# Altium footprint library S2B-13-F.PcbLib: 3 footprints
Each footprint in its own frame and in the unit in brackets; x right, y up, seen from the top. Pads: shape width x height; smd on the part's side, far side on the other; paste and mask are expansions set on the pad; w line width, h text height; cw(c..) or ccw(c..) is an arc to the next point about the centre after c.
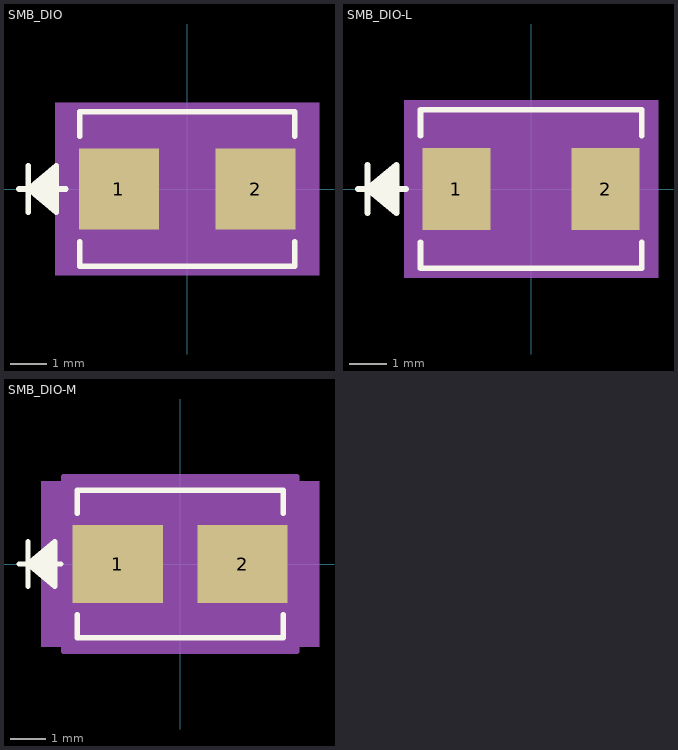
[diagram p0: the footprints below, top view; thin cyan lines are the x and y axes]

## SMB_DIO [mm]
pads (2):
  rect 2.18x2.21 smd paste+0 mask+0: 1(-1.857,0) 2(1.857,0)
Top Overlay:
  lines w0.152: -4.573,0 -3.303,0 ; -4.319,-0.635 -4.319,0.635 ; -3.557,-0.508 -4.319,0 ; -3.557,-0.381 -4.319,0 ; -3.557,-0.254 -4.319,0 ; -3.557,-0.127 -4.319,0 ; -3.557,0.127 -4.319,0 ; -3.557,0.254 -4.319,0 ; -3.557,0.381 -4.319,0 ; -3.557,0.508 -4.319,0 ; -2.922,-1.438 -2.922,-2.097 2.922,-2.097 2.922,-1.438 ; -2.922,1.438 -2.922,2.097 2.922,2.097 2.922,1.438 ; -4.319,0 -3.557,0.635 -3.557,-0.635 -4.319,0
Mechanical 5:
  region: 3.582,-2.351 -3.582,-2.351 -3.582,2.351 3.582,2.351
Mechanical 13:
  lines w0.025: -4.573,0 -3.303,0 ; -4.319,-0.635 -4.319,0.635 ; -3.557,-0.508 -4.319,0 ; -3.557,-0.381 -4.319,0 ; -3.557,-0.254 -4.319,0 ; -3.557,-0.127 -4.319,0 ; -3.557,0.127 -4.319,0 ; -3.557,0.254 -4.319,0 ; -3.557,0.381 -4.319,0 ; -3.557,0.508 -4.319,0 ; -4.319,0 -3.557,0.635 -3.557,-0.635 -4.319,0 ; -2.795,-1.97 2.795,-1.97 2.795,1.97 -2.795,1.97 -2.795,-1.97
Mechanical 15:
  region: -3.049,-1.359 -3.201,-1.359 -3.201,1.359 -3.049,1.359 -3.049,2.224 3.049,2.224 3.049,1.359 3.201,1.359 3.201,-1.359 3.049,-1.359 3.049,-2.224 -3.049,-2.224
  lines w0.152: -3.201,-1.359 -3.201,1.359 -3.049,1.359 -3.049,2.224 3.049,2.224 3.049,1.359 3.201,1.359 3.201,-1.359 3.049,-1.359 3.049,-2.224 -3.049,-2.224 -3.049,-1.359 -3.201,-1.359
3D body "SMB_DIO.step": height 2.45, standoff 0, extent -2.795,-1.97 2.795,1.97

## SMB_DIO-L [mm]
pads (2):
  rect 1.799x2.159 smd paste+0 mask+0: 1(-1.971,0) 2(1.971,0)
Top Overlay:
  lines w0.152: -4.573,0 -3.303,0 ; -4.319,-0.635 -4.319,0.635 ; -3.557,-0.508 -4.319,0 ; -3.557,-0.381 -4.319,0 ; -3.557,-0.254 -4.319,0 ; -3.557,-0.127 -4.319,0 ; -3.557,0.127 -4.319,0 ; -3.557,0.254 -4.319,0 ; -3.557,0.381 -4.319,0 ; -3.557,0.508 -4.319,0 ; -2.922,-1.408 -2.922,-2.097 2.922,-2.097 2.922,-1.408 ; -2.922,1.408 -2.922,2.097 2.922,2.097 2.922,1.408 ; -4.319,0 -3.557,0.635 -3.557,-0.635 -4.319,0
Mechanical 5:
  region: 3.354,-2.351 -3.354,-2.351 -3.354,2.351 3.354,2.351
Mechanical 13:
  lines w0.025: -4.573,0 -3.303,0 ; -4.319,-0.635 -4.319,0.635 ; -3.557,-0.508 -4.319,0 ; -3.557,-0.381 -4.319,0 ; -3.557,-0.254 -4.319,0 ; -3.557,-0.127 -4.319,0 ; -3.557,0.127 -4.319,0 ; -3.557,0.254 -4.319,0 ; -3.557,0.381 -4.319,0 ; -3.557,0.508 -4.319,0 ; -4.319,0 -3.557,0.635 -3.557,-0.635 -4.319,0 ; -2.795,-1.97 2.795,-1.97 2.795,1.97 -2.795,1.97 -2.795,-1.97
Mechanical 15:
  region: -2.897,-1.207 -2.973,-1.207 -2.973,1.207 -2.897,1.207 -2.897,2.072 2.897,2.072 2.897,1.207 2.973,1.207 2.973,-1.207 2.897,-1.207 2.897,-2.072 -2.897,-2.072
  lines w0.152: -2.973,-1.207 -2.973,1.207 -2.897,1.207 -2.897,2.072 2.897,2.072 2.897,1.207 2.973,1.207 2.973,-1.207 2.897,-1.207 2.897,-2.072 -2.897,-2.072 -2.897,-1.207 -2.973,-1.207
3D body "SMB_DIO.step": height 2.45, standoff 0, extent -2.795,-1.97 2.795,1.97

## SMB_DIO-M [mm]
pads (2):
  rect 2.561x2.21 smd paste+0 mask+0: 1(-1.768,0) 2(1.768,0)
Top Overlay:
  lines w0.152: -4.573,0 -3.382,0 ; -4.319,-0.635 -4.319,0.635 ; -3.557,-0.508 -4.319,0 ; -3.557,-0.381 -4.319,0 ; -3.557,-0.254 -4.319,0 ; -3.557,-0.127 -4.319,0 ; -3.557,0.127 -4.319,0 ; -3.557,0.254 -4.319,0 ; -3.557,0.381 -4.319,0 ; -3.557,0.508 -4.319,0 ; -2.922,-1.438 -2.922,-2.097 2.922,-2.097 2.922,-1.438 ; -2.922,1.438 -2.922,2.097 2.922,2.097 2.922,1.438 ; -4.319,0 -3.557,0.635 -3.557,-0.635 -4.319,0
Mechanical 5:
  region: 3.938,-2.351 -3.938,-2.351 -3.938,2.351 3.938,2.351
Mechanical 13:
  lines w0.025: -4.573,0 -3.303,0 ; -4.319,-0.635 -4.319,0.635 ; -3.557,-0.508 -4.319,0 ; -3.557,-0.381 -4.319,0 ; -3.557,-0.254 -4.319,0 ; -3.557,-0.127 -4.319,0 ; -3.557,0.127 -4.319,0 ; -3.557,0.254 -4.319,0 ; -3.557,0.381 -4.319,0 ; -3.557,0.508 -4.319,0 ; -4.319,0 -3.557,0.635 -3.557,-0.635 -4.319,0 ; -2.795,-1.97 2.795,-1.97 2.795,1.97 -2.795,1.97 -2.795,-1.97
Mechanical 15:
  region: -3.303,-1.613 -3.557,-1.613 -3.557,1.613 -3.303,1.613 -3.303,2.478 3.303,2.478 3.303,1.613 3.557,1.613 3.557,-1.613 3.303,-1.613 3.303,-2.478 -3.303,-2.478
  lines w0.152: -3.557,-1.613 -3.557,1.613 -3.303,1.613 -3.303,2.478 3.303,2.478 3.303,1.613 3.557,1.613 3.557,-1.613 3.303,-1.613 3.303,-2.478 -3.303,-2.478 -3.303,-1.613 -3.557,-1.613
3D body "SMB_DIO.step": height 2.45, standoff 0, extent -2.795,-1.97 2.795,1.97